# Altium schematic symbol library DN350T05.Schlib: 1 symbol
Pins are listed as number, name and electrical type; pins without a type are passive.

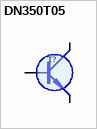
[diagram p0: symbol DN350T05]

## DN350T05
designator T?
SOT23   350V 0.5A 50MHz  7p(20V)
pins: 1 B, 2 E (oe), 3 C (oc)
1 alternate drawing of the same symbol